# Altium footprint library LABLIB.PcbLib: 244 footprints (part 12 of 17)
Each footprint in its own frame and in the unit in brackets; x right, y up, seen from the top. Pads: shape width x height; smd on the part's side, far side on the other; paste and mask are expansions set on the pad; w line width, h text height; cw(c..) or ccw(c..) is an arc to the next point about the centre after c.
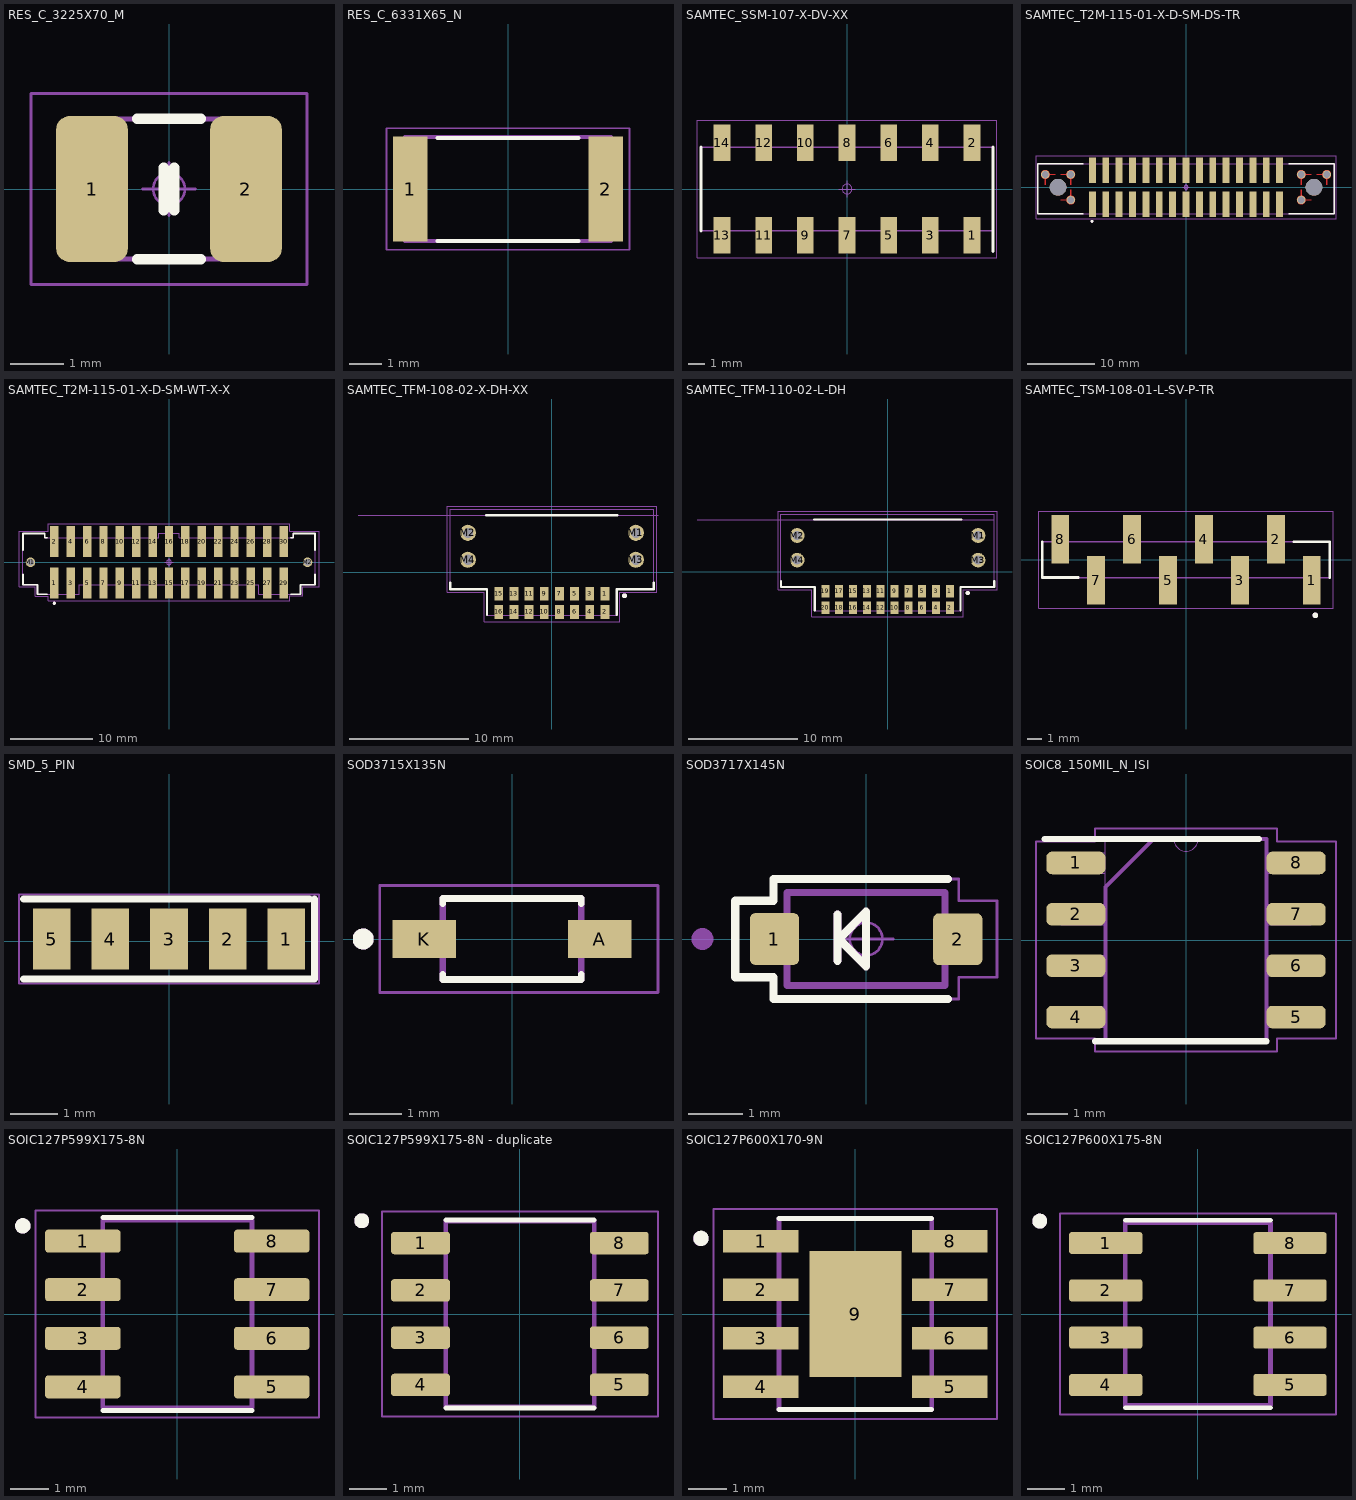
[diagram p11: the footprints below, top view; thin cyan lines are the x and y axes]

## RES_C_3225X70_M [mm] "Chip Resistor, 2-Leads, Body 3.20x2.49mm, IPC Medium Density"
height 0.71
pads (2):
  rrect37% 1.35x2.75 smd: 1(-1.45,0) 2(1.45,0)
Top Overlay:
  lines w0.2: -0.6,-1.325 0.6,-1.325 ; -0.6,1.325 0.6,1.325 ; -0.1,-0.4 -0.1,0.4 ; 0.1,-0.4 0.1,0.4
Top Assembly:
  lines w0.1: -1.675,-1.32 1.675,-1.32 1.675,1.32 -1.675,1.32 -1.675,-1.32
  text "'.Designator'" at -4.217,-0.663 h1.6
Top Courtyard:
  lines w0.05: -2.6,-1.8 2.6,-1.8 2.6,1.8 -2.6,1.8 -2.6,-1.8
Top Component Outline:
  region: 1.675,1.315 0.925,1.315 0.925,-1.325 1.675,-1.325
  rectangle: -1.675,-1.315 -0.925,1.325
  lines w0.05: -1.675,-1.325 -1.675,1.325 1.675,1.325 1.675,-1.325 -1.675,-1.325
Top Component Center:
  circle w0.05: c0,0 r0.3
  lines w0.05: -0.5,0 0.5,0 ; 0,-0.5 0,0.5
3D body "RESC3225X70_M.step": height 0.71, standoff 0, extent -1.675,-1.32 1.675,1.32

## RES_C_6331X65_N [mm]
pads (2):
  rect 1.07x3.27 smd: 1(-3.055,0) 2(3.055,0)
Top Overlay:
  lines w0.127: -2.2,-1.63 2.2,-1.63 ; -2.2,1.6 2.2,1.6
Top Courtyard:
  lines w0.05: -3.8,-1.9 -3.8,1.9 3.8,1.9 3.8,-1.9 -3.8,-1.9
Mechanical 13:
  lines w0.127: -3.22,-1.63 -3.22,1.63 3.22,1.63 3.22,-1.63 -3.22,-1.63
3D body "RPC2512JT10R0.STEP": height 0.65, standoff 0, extent -3.175,-1.55 3.175,1.55

## SAMTEC_SSM-107-X-DV-XX [mm]
pads (14):
  rect 1.02x2.22 smd: 1(7.62,-2.825) 2(7.62,2.825) 3(5.08,-2.825) 4(5.08,2.825) 5(2.54,-2.825) 6(2.54,2.825) 7(0,-2.825) 8(0,2.825) 9(-2.54,-2.825) 10(-2.54,2.825) 11(-5.08,-2.825) 12(-5.08,2.825) 13(-7.62,-2.825) 14(-7.62,2.825)
Top Overlay:
  lines w0.2: -8.89,-2.54 -8.89,2.54 ; 8.89,2.54 8.9,-3.8
Top Courtyard:
  lines w0.05: -9.14,-4.185 9.14,-4.185 9.14,4.185 -9.14,4.185 -9.14,-4.185
Top Component Center:
  circle w0.05: c0,0 r0.3
  lines w0.05: -0.5,0 0.5,0 ; 0,-0.5 0,0.5
Mechanical 13:
  lines w0.1: -8.89,-2.54 8.89,-2.54 8.89,2.54 -8.89,2.54 -8.89,-2.54
3D body "SSM-107-T-DV-P.stp": height 8.59, standoff -0.1, extent -8.89,-3.518 8.89,3.518

## SAMTEC_T2M-115-01-X-D-SM-DS-TR [mm]
pads (38):
  rect 1.02x3.8 smd: 1(-14,-2.535) 2(-14,2.535) 3(-12,-2.535) 4(-12,2.535) 5(-10,-2.535) 6(-10,2.535) 7(-8,-2.535) 8(-8,2.535) 9(-6,-2.535) 10(-6,2.535) 11(-4,-2.535) 12(-4,2.535) 13(-2,-2.535) 14(-2,2.535) 15(0,-2.535) 16(0,2.535) 17(2,-2.535) 18(2,2.535) 19(4,-2.535) 20(4,2.535) 21(6,-2.535) 22(6,2.535) 23(8,-2.535) 24(8,2.535) 25(10,-2.535) 26(10,2.535) 27(12,-2.535) 28(12,2.535) 29(14,-2.535) 30(14,2.535)
  round 1.27 hole 1.02: M1(-21.05,1.905) M1(-17.24,-1.905) M1(-17.24,1.905) M2(17.24,-1.905) M2(17.24,1.905) M2(21.05,1.905)
  round 2.49 hole 2.49 unplated: ""(-19.145,0) ""(19.145,0)
Top Layer:
  region: 128 vertices and 1 holes, not listed, extent 16.605,-2.54 18.76,-0.385
  region: 128 vertices and 1 holes, not listed, extent -18.76,-2.54 -16.605,-0.385
  region: 128 vertices and 1 holes, not listed, extent -18.76,0.385 -16.605,2.54
  region: 128 vertices and 1 holes, not listed, extent -21.685,0.385 -19.53,2.54
  region: 128 vertices and 1 holes, not listed, extent 19.53,0.385 21.685,2.54
  region: 128 vertices and 1 holes, not listed, extent 16.605,0.385 18.76,2.54
Top Overlay:
  circle w0.2: c-14.057,-5.108 r0.1
  lines w0.2: -15.35,-3.93 -22.19,-3.93 -22.19,3.51 -15.35,3.51 ; 15.35,-3.93 22.19,-3.93 22.19,3.51 15.35,3.51
Top Paste:
  region: -16.73,-2.97 -18.89,-2.97 -18.89,-1.95 -17.49,-0.18 -16.73,-0.18
  region: -16.73,0.18 -17.49,0.18 -18.89,1.95 -18.89,2.97 -16.73,2.97
  region: -19.4,1.955 -20.8,0.18 -21.56,0.18 -21.56,2.97 -19.4,2.97
  region: 18.89,-1.95 18.89,-2.97 16.73,-2.97 16.73,-0.18 17.49,-0.18
  region: 21.56,0.18 20.8,0.18 19.4,1.95 19.4,2.97 21.56,2.97
  region: 18.89,1.955 17.49,0.18 16.73,0.18 16.73,2.97 18.89,2.97
Top Solder:
  drawing of 6 lines, arcs and shapes, not listed
Top Component Center:
  circle w0.05: c0,0 r0.3
  lines w0.05: -0.5,0 0.5,0 ; 0,-0.5 0,0.5
Mechanical 13:
  circle w0.2: c-14.057,-5.108 r0.1
  lines w0.1: -22.19,-3.93 -22.19,3.51 22.19,3.51 22.19,-3.93 -22.19,-3.93
Mechanical 15:
  lines w0.05: -22.44,-4.685 -22.44,4.685 22.44,4.685 22.44,-4.685 -22.44,-4.685
3D body "T2M-115-01-L-D-SM-DS.stp": height 6.6, standoff -1.19, extent -22.192,-4.314 22.192,4.314

## SAMTEC_T2M-115-01-X-D-SM-WT-X-X [mm]
pads (32):
  rect 1.02x3.8 smd: 1(-14,-2.535) 2(-14,2.535) 3(-12,-2.535) 4(-12,2.535) 5(-10,-2.535) 6(-10,2.535) 7(-8,-2.535) 8(-8,2.535) 9(-6,-2.535) 10(-6,2.535) 11(-4,-2.535) 12(-4,2.535) 13(-2,-2.535) 14(-2,2.535) 15(0,-2.535) 16(0,2.535) 17(2,-2.535) 18(2,2.535) 19(4,-2.535) 20(4,2.535) 21(6,-2.535) 22(6,2.535) 23(8,-2.535) 24(8,2.535) 25(10,-2.535) 26(10,2.535) 27(12,-2.535) 28(12,2.535) 29(14,-2.535) 30(14,2.535)
  round 1.163 hole 0.813: M1(-16.925,0) M2(16.925,0)
Top Overlay:
  circle w0.2: c-14,-5 r0.1
  lines w0.2: -17.835,-1.495 -17.835,-2.74 -16.065,-2.74 -16.065,-3.92 -14.86,-3.92 ; -17.835,1.495 -17.835,3.52 -15.175,3.52 -15.175,3.01 -14.86,3.01 ; 14.86,-3.92 16.065,-3.92 16.065,-2.74 17.835,-2.74 17.835,-1.495 ; 14.86,3.01 15.175,3.01 15.175,3.52 17.835,3.52 17.835,1.495
Top Paste:
  circle w1.145: c16.925,0 r0.573
  circle w1.145: c-16.925,0 r0.573
Top Component Center:
  circle w0.05: c0,0 r0.3
  lines w0.05: -0.5,0 0.5,0 ; 0,-0.5 0,0.5
Mechanical 13:
  circle w0.2: c-14,-5 r0.1
  lines w0.1: -17.835,-2.74 -16.065,-2.74 -16.065,-3.92 -10.985,-3.92 -10.985,-2.74 10.985,-2.74 10.985,-3.92 16.065,-3.92 16.065,-2.74 17.835,-2.74 17.835,3.52 15.175,3.52 15.175,3.01 1.27,3.01 1.27,3.52 -1.27,3.52 -1.27,3.01 -15.175,3.01 -15.175,3.52 -17.835,3.52 -17.835,-2.74
Mechanical 15:
  lines w0.05: -18.32,-2.99 -18.32,3.77 -14.76,3.77 -14.76,4.685 14.76,4.685 14.76,3.77 18.32,3.77 18.32,-2.99 16.315,-2.99 16.315,-4.1 14.76,-4.1 14.76,-4.685 -14.76,-4.685 -14.76,-4.17 -16.315,-4.17 -16.315,-2.99 -18.32,-2.99
3D body "T2M-115-01-L-D-SM-WT.stp": height 6.6, standoff -1.6, extent -17.837,-4.314 17.837,4.314

## SAMTEC_TFM-108-02-X-DH-XX [mm]
pads (20):
  rect 0.74x1.14 smd: 1(4.445,-1.795) 2(4.445,-3.315) 3(3.175,-1.795) 4(3.175,-3.315) 5(1.905,-1.795) 6(1.905,-3.315) 7(0.635,-1.795) 8(0.635,-3.315) 9(-0.635,-1.795) 10(-0.635,-3.315) 11(-1.905,-1.795) 12(-1.905,-3.315) 13(-3.175,-1.795) 14(-3.175,-3.315) 15(-4.445,-1.795) 16(-4.445,-3.315)
  round 1.348 hole 0.84: M1(7.035,3.315) M2(-7.035,3.315) M3(7.035,1.055) M4(-7.035,1.055)
Top Overlay:
  circle w0.2: c6.08,-1.965 r0.1
  lines w0.2: -8.52,-0.865 -8.52,-1.405 -5.425,-1.405 -5.425,-3.575 ; -5.48,4.785 5.48,4.785 ; 5.425,-3.575 5.425,-1.405 8.52,-1.405 8.52,-0.865
Top Paste:
  region: -5.955,2.375 -8.415,2.375 -8.415,4.665 -5.955,4.665
  region: -5.955,-0.465 -8.415,-0.465 -8.415,1.995 -5.955,1.995
  region: 8.415,2.375 5.955,2.375 5.955,4.665 8.415,4.665
  region: 8.415,-0.465 5.955,-0.465 5.955,1.995 8.415,1.995
Top Assembly:
  lines w0.025: 0.635,4.785 8.89,4.785
  lines w0.1: -16.23,4.785 8.52,4.785 ; 8.52,4.785 8.52,5.285 -8.52,5.285 -8.52,-1.405 -5.425,-1.405 -5.425,-3.575 5.425,-3.575 5.425,-1.405 8.52,-1.405 8.52,4.785
  text "PCB EDGE" at -8.89,4.985 h1
Mechanical 13:
  circle w0.2: c6.08,-1.965 r0.1
Mechanical 15:
  lines w0.05: -8.77,-1.655 -5.675,-1.655 -5.675,-4.135 5.675,-4.135 5.675,-1.655 8.77,-1.655 8.77,5.535 -8.77,5.535 -8.77,-1.655
3D body "TFM-108-02-L-DH.stp": height 0.7, standoff -7.66, extent -8.522,-3.691 8.522,5.301
3D body "isdf-10-d.stp": height 7.68, standoff 1.33, extent -6.54,0.624 6.54,11.8

## SAMTEC_TFM-110-02-L-DH [mm]
pads (24):
  rect 0.74x1.14 smd: 1(5.715,-1.795) 2(5.715,-3.315) 3(4.445,-1.795) 4(4.445,-3.315) 5(3.175,-1.795) 6(3.175,-3.315) 7(1.905,-1.795) 8(1.905,-3.315) 9(0.635,-1.795) 10(0.635,-3.315) 11(-0.635,-1.795) 12(-0.635,-3.315) 13(-1.905,-1.795) 14(-1.905,-3.315) 15(-3.175,-1.795) 16(-3.175,-3.315) 17(-4.445,-1.795) 18(-4.445,-3.315) 19(-5.715,-1.795) 20(-5.715,-3.315)
  round 1.348 hole 0.84: M1(8.305,3.315) M2(-8.305,3.315) M3(8.305,1.055) M4(-8.305,1.055)
Top Overlay:
  circle w0.2: c7.355,-1.965 r0.1
  lines w0.2: -9.79,-0.865 -9.79,-1.405 -6.695,-1.405 -6.695,-3.575 ; -6.75,4.785 6.75,4.785 ; 6.695,-3.575 6.695,-1.405 9.79,-1.405 9.79,-0.865
Top Paste:
  region: -7.225,-0.465 -9.685,-0.465 -9.685,1.995 -7.225,1.995
  region: -7.225,2.375 -9.685,2.375 -9.685,4.665 -7.225,4.665
  region: 9.685,-0.465 7.225,-0.465 7.225,1.995 9.685,1.995
  region: 9.685,2.375 7.225,2.375 7.225,4.665 9.685,4.665
Mechanical 13:
  circle w0.2: c7.355,-1.965 r0.1
  lines w0.1: -17.5,4.785 9.79,4.785 ; 9.79,4.785 9.79,5.285 -9.79,5.285 -9.79,-1.405 -6.695,-1.405 -6.695,-3.575 6.695,-3.575 6.695,-1.405 9.79,-1.405 9.79,4.785
  text "PCB EDGE" at -17.6,5.035 h1
Mechanical 15:
  lines w0.05: -10.04,-1.655 -6.945,-1.655 -6.945,-4.135 6.945,-4.135 6.945,-1.655 10.04,-1.655 10.04,5.535 -10.04,5.535 -10.04,-1.655
3D body "TFM-110-02-L-DH.stp": height 6.06, standoff -2.3, extent -9.792,-3.686 9.792,5.306

## SAMTEC_TSM-108-01-L-SV-P-TR [mm]
pads (8):
  rect 1.27x3.43 smd: 1(8.89,-1.46) 2(6.35,1.46) 3(3.81,-1.46) 4(1.27,1.46) 5(-1.27,-1.46) 6(-3.81,1.46) 7(-6.35,-1.46) 8(-8.89,1.46)
Top Overlay:
  circle w0.2: c9.14,-3.935 r0.1
  lines w0.2: -10.16,1.27 -10.16,-1.27 -7.62,-1.27 ; 7.62,1.27 10.16,1.27 10.16,-1.27
Mechanical 13:
  circle w0.2: c9.14,-3.935 r0.1
  lines w0.1: -10.16,-1.27 10.16,-1.27 10.16,1.27 -10.16,1.27 -10.16,-1.27
Mechanical 15:
  lines w0.05: -10.41,-3.425 10.41,-3.425 10.41,3.425 -10.41,3.425 -10.41,-3.425
3D body "TSM-108-01-L-SV-P-TR.stp": height 10.95, standoff 0.03, extent -10.16,-2.642 10.16,2.642

## SMD_5_PIN [mm]
height 4.7
pads (5):
  rect 0.8x1.3 smd mask+0.076: 1(2.5,0.05) 2(1.25,0.05) 3(0,0.05) 4(-1.25,0.05) 5(-2.5,0.05)
Top Overlay:
  lines w0.15: -3.1,-0.8 3.1,-0.8 3.1,0.9 ; -3.1,0.9 3,0.9
Top Courtyard:
  lines w0.05: -3.2,-0.9 -3.2,1 3.2,1 3.2,-0.9 -3.2,-0.9

## SOD3715X135N [mm]
pads (2):
  rect 1.21x0.73 smd: A(1.68,0) K(-1.68,0)
Top Overlay:
  circle w0.2: c-2.85,0 r0.1
  lines w0.127: -1.325,-0.679 -1.325,-0.775 1.325,-0.775 1.325,-0.679 ; -1.325,0.679 -1.325,0.775 1.325,0.775 1.325,0.679
Mechanical 13:
  circle w0.2: c-2.85,0 r0.1
  lines w0.127: -1.325,-0.775 -1.325,0.775 1.325,0.775 1.325,-0.775 -1.325,-0.775
Mechanical 15:
  lines w0.05: -2.535,-1.025 -2.535,1.025 2.794,1.025 2.794,-1.025 -2.535,-1.025
3D body "step_temp.STEP": height 1.44, standoff -0.01, extent -1.825,-0.775 1.825,0.775

## SOD3717X145N [mm]
pads (2):
  rrect22% 0.9x0.95 smd: 1(-1.68,0) 2(1.681,-0.003)
Top Overlay:
  lines w0.15: -0.525,-0.4 -0.525,0.45 ; 1.5,-1.1 -1.7,-1.1 -1.7,-0.7 -2.4,-0.7 -2.4,0.7 -1.7,0.7 -1.7,1.1 1.5,1.1 ; -0.5,0 0,-0.5 0,0.375 0,0.5 -0.5,0
Top Assembly:
  lines w0.127: -1.45,-0.85 -1.45,0.85 1.45,0.85 1.45,-0.85 -1.45,-0.85
  lines w0.15: -0.525,-0.4 -0.525,0.45 ; -0.5,0 0,-0.5 0,0.375 0,0.5 -0.5,0
  text "'.Designator'" at -3.952,-0.622 h1.5
Top Courtyard:
  lines w0.05: -2.4,-0.7 -2.4,0.7 -1.7,0.7 -1.7,1.1 1.5,1.1 1.7,1.1 1.7,0.7 2.4,0.7 2.4,-0.7 1.7,-0.7 1.7,-1.1 -1.7,-1.1 -1.7,-0.7 -2.4,-0.7
Top Component Outline:
  region: -1.525,0.3 -1.925,0.3 -1.925,-0.3 -1.525,-0.3
  rectangle: 1.525,-0.3 1.925,0.3
  lines w0.05: -1.45,-0.85 -1.45,0.85 1.45,0.85 1.45,-0.85 -1.45,-0.85
Top Component Center:
  circle w0.05: c0,0 r0.3
  lines w0.05: -0.5,0 0.5,0 ; 0,-0.5 0,0.5
Mechanical 13:
  circle w0.2: c-3,0 r0.1
3D body "step_temp.STEP": height 1.5, standoff -0.03, extent -1.825,-0.775 1.825,0.775

## SOIC8_150MIL_N_ISI [mil]
pads (8):
  rrect50% 57.5x22 smd paste+0: 1(-107.25,75) 2(-107.25,25) 3(-107.25,-25) 4(-107.25,-75) 5(107.25,-75) 6(107.25,-25) 7(107.25,25) 8(107.25,75)
Top Overlay:
  lines w6: -137.8,98.43 70.87,98.43 ; -88.5,-98.5 78.5,-98.5
Top Assembly:
  lines w3.94: -78.5,-98.5 78.5,-98.5 78.5,98.5 -31.42,98.5 -78.5,51.42 -78.5,-98.5
Top Courtyard:
  lines w1.97: -146,-96 -88.5,-96 -88.5,-108.5 88.5,-108.5 88.5,-96 146,-96 146,96 88.5,96 88.5,108.5 -88.5,108.5 -88.5,96 -146,96 -146,-96
Top Component Outline:
  lines w0: -12,98.5 ccw(c0,98.5) 12,98.5
  lines w1: -122,-85 -122,-65 -78.5,-65 -78.5,-85 -122,-85 ; -122,-35 -122,-15 -78.5,-15 -78.5,-35 -122,-35 ; -122,15 -122,35 -78.5,35 -78.5,15 -122,15 ; -122,65 -122,85 -78.5,85 -78.5,65 -122,65 ; -78.5,-98.5 -78.5,98.5 78.5,98.5 78.5,-98.5 -78.5,-98.5 ; 78.5,-85 78.5,-65 122,-65 122,-85 78.5,-85 ; 78.5,-35 78.5,-15 122,-15 122,-35 78.5,-35 ; 78.5,15 78.5,35 122,35 122,15 78.5,15 ; 78.5,65 78.5,85 122,85 122,65 78.5,65
3D body "SOIC8_150MIL_N_ISI.step": height 69.09, standoff 0, extent -122.01,-98.5 122.01,98.5

## SOIC127P599X175-8N [mm]
pads (8):
  rrect25% 1.97x0.6 smd paste+0 mask+0.102: 1(-2.47,1.905) 2(-2.47,0.635) 3(-2.47,-0.635) 4(-2.47,-1.905) 5(2.47,-1.905) 6(2.47,-0.635) 7(2.47,0.635) 8(2.47,1.905)
Top Overlay:
  circle w0.2: c-4.04,2.305 r0.1
  lines w0.127: -1.95,-2.525 1.95,-2.525 ; -1.95,2.525 1.95,2.525
Mechanical 13:
  circle w0.2: c-4.04,2.305 r0.1
  lines w0.127: -1.95,-2.452 -1.95,2.452 1.95,2.452 1.95,-2.452 -1.95,-2.452
Mechanical 15:
  lines w0.05: -3.705,-2.702 -3.705,2.702 3.705,2.702 3.705,-2.702 -3.705,-2.702
3D body "step_temp.STEP": height 1.68, standoff 0, extent -3,-2.49 3,2.49

## SOIC127P599X175-8N - duplicate [mm]
pads (8):
  rrect25% 1.58x0.6 smd: 1(-2.67,1.905) 2(-2.67,0.635) 3(-2.67,-0.635) 4(-2.67,-1.905) 5(2.67,-1.905) 6(2.67,-0.635) 7(2.67,0.635) 8(2.67,1.905)
Top Overlay:
  circle w0.2: c-4.25,2.505 r0.1
  lines w0.127: -1.995,-2.525 1.995,-2.525 ; -1.995,2.525 1.995,2.525
Mechanical 13:
  circle w0.2: c-4.25,2.505 r0.1
  lines w0.127: -1.995,-2.5 -1.995,2.5 1.995,2.5 1.995,-2.5 -1.995,-2.5
Mechanical 15:
  lines w0.05: -3.71,-2.75 -3.71,2.75 3.71,2.75 3.71,-2.75 -3.71,-2.75
3D body "step_temp.STEP": height 1.68, standoff 0, extent -3,-2.49 3,2.49

## SOIC127P600X170-9N [mm]
pads (9):
  rect 1.97x0.6 smd: 1(-2.475,1.905) 2(-2.475,0.635) 3(-2.475,-0.635) 4(-2.475,-1.905) 5(2.475,-1.905) 6(2.475,-0.635) 7(2.475,0.635) 8(2.475,1.905)
  rect 2.41x3.3 smd paste-3: 9(0,0)
Top Overlay:
  circle w0.2: c-4.04,1.98 r0.1
  lines w0.127: -2,-2.5 2,-2.5 ; -2,2.5 2,2.5
Top Paste:
  region: 0.762,-1.042 -0.763,-1.042 -0.763,1.04 0.762,1.04
Mechanical 13:
  circle w0.2: c-4.044,1.977 r0.1
  lines w0.127: -2,-2.5 2,-2.5 2,2.5 -2,2.5 -2,-2.5
Mechanical 15:
  lines w0.05: -3.71,-2.75 3.71,-2.75 3.71,2.75 -3.71,2.75 -3.71,-2.75
3D body "step_temp.STEP": height 1.7, standoff 0, extent -3,-2.45 3,2.45

## SOIC127P600X175-8N [mm]
pads (8):
  rrect25% 1.97x0.59 smd paste+0 mask+0.102: 1(-2.475,1.905) 2(-2.475,0.635) 3(-2.475,-0.635) 4(-2.475,-1.905) 5(2.475,-1.905) 6(2.475,-0.635) 7(2.475,0.635) 8(2.475,1.905)
Top Overlay:
  circle w0.2: c-4.25,2.495 r0.1
  lines w0.127: -1.95,-2.52 1.95,-2.52 ; -1.95,2.52 1.95,2.52
Mechanical 13:
  circle w0.2: c-4.25,2.495 r0.1
  lines w0.127: -1.95,-2.45 1.95,-2.45 1.95,2.45 -1.95,2.45 -1.95,-2.45
Mechanical 15:
  lines w0.05: -3.71,-2.7 3.71,-2.7 3.71,2.7 -3.71,2.7 -3.71,-2.7